# Altium footprint library AltiumDesigner.PcbLib: 151 footprints (part 2 of 10)
Each footprint in its own frame and in the unit in brackets; x right, y up, seen from the top. Pads: shape width x height; smd on the part's side, far side on the other; paste and mask are expansions set on the pad; w line width, h text height; cw(c..) or ccw(c..) is an arc to the next point about the centre after c.
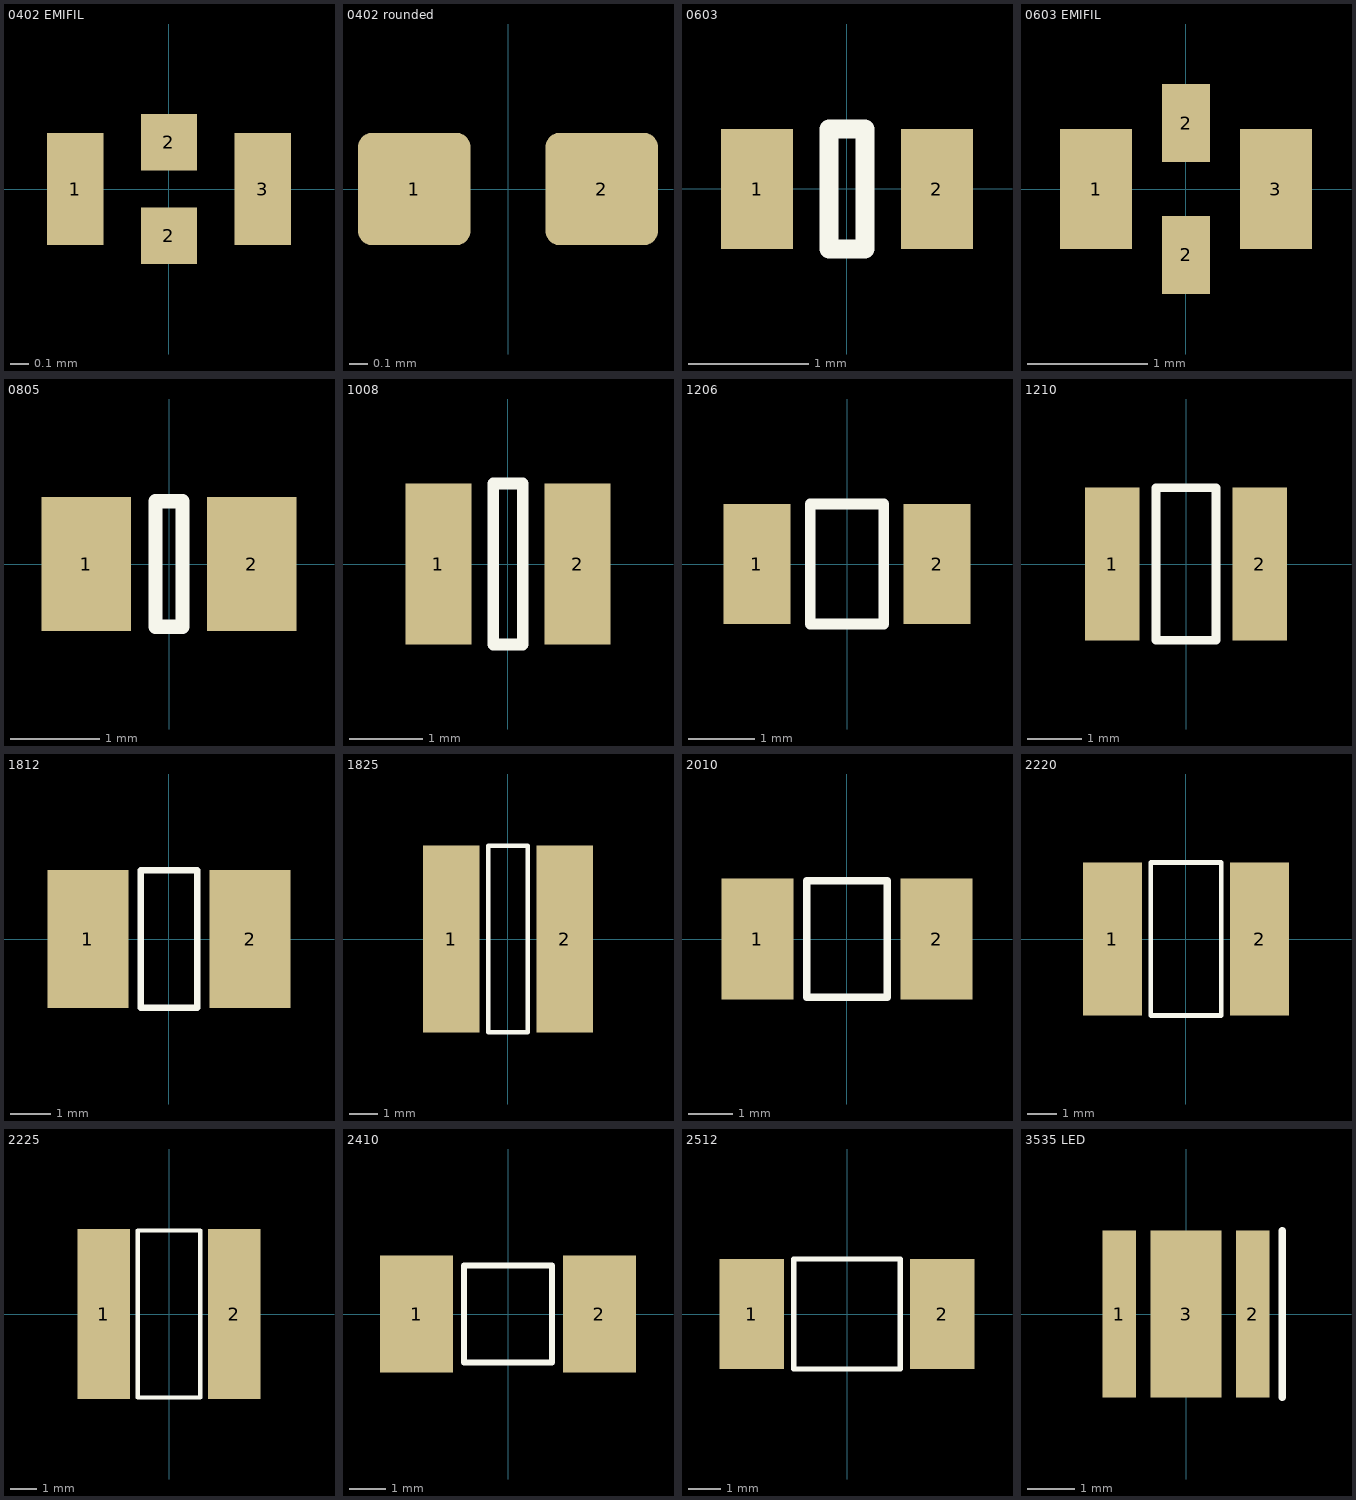
[diagram p1: the footprints below, top view; thin cyan lines are the x and y axes]

## 0402 EMIFIL [mm]
pads (4):
  rect 0.3x0.6 smd: 1(-0.5,0) 3(0.5,0)
  rect 0.3x0.3 smd: 2(0,-0.25) 2(0,0.25)

## 0402 rounded [mm]
pads (2):
  rrect25% 0.6x0.6 smd: 1(-0.5,0) 2(0.5,0)

## 0603 [mm]
pads (2):
  rect 0.6x1 smd: 1(-0.75,0) 2(0.75,0)
Top Overlay:
  lines w0.16: -0.15,-0.5 0.15,-0.5 0.15,0.5 -0.15,0.5 -0.15,-0.5

## 0603 EMIFIL [mm]
pads (4):
  rect 0.6x1 smd: 1(-0.75,0) 3(0.75,0)
  rect 0.4x0.65 smd: 2(0,-0.55) 2(0,0.55)

## 0805 [mm]
pads (2):
  rect 1x1.5 smd: 1(-0.925,0) 2(0.925,0)
Top Overlay:
  lines w0.16: -0.15,-0.7 -0.15,0.7 0.15,0.7 0.15,-0.7 -0.15,-0.7

## 1008 [mm]
pads (2):
  rect 0.9x2.2 smd: 1(-0.95,0) 2(0.95,0)
Top Overlay:
  lines w0.16: -0.2,-1.1 -0.2,1.1 0.2,1.1 0.2,-1.1 -0.2,-1.1

## 1206 [mm]
pads (2):
  rect 1x1.8 smd: 1(-1.35,0) 2(1.35,0)
Top Overlay:
  lines w0.16: -0.55,-0.9 -0.55,0.9 0.55,0.9 0.55,-0.9 -0.55,-0.9

## 1210 [mm]
pads (2):
  rect 1x2.8 smd: 1(-1.35,0) 2(1.35,0)
Top Overlay:
  lines w0.16: -0.55,-1.4 0.55,-1.4 0.55,1.4 -0.55,1.4 -0.55,-1.4

## 1812 [mm]
pads (2):
  rect 2x3.4 smd: 1(-2,0) 2(2,0)
Top Overlay:
  lines w0.16: -0.7,-1.7 0.7,-1.7 0.7,1.7 -0.7,1.7 -0.7,-1.7

## 1825 [mm]
pads (2):
  rect 2x6.6 smd: 1(-2,0) 2(2,0)
Top Overlay:
  lines w0.16: -0.7,-3.3 -0.7,3.3 0.7,3.3 0.7,-3.3 -0.7,-3.3

## 2010 [mm]
pads (2):
  rect 1.6x2.7 smd: 1(-2,0) 2(2,0)
Top Overlay:
  lines w0.16: -0.9,-1.3 0.9,-1.3 0.9,1.3 -0.9,1.3 -0.9,-1.3

## 2220 [mm]
pads (2):
  rect 2x5.2 smd: 1(-2.5,0) 2(2.5,0)
Top Overlay:
  lines w0.16: -1.2,-2.6 1.2,-2.6 1.2,2.6 -1.2,2.6 -1.2,-2.6

## 2225 [mm]
pads (2):
  rect 2x6.5 smd: 1(-2.5,0) 2(2.5,0)
Top Overlay:
  lines w0.16: -1.2,-3.2 1.2,-3.2 1.2,3.2 -1.2,3.2 -1.2,-3.2

## 2410 [mm]
pads (2):
  rect 2x3.2 smd: 1(-2.5,0) 2(2.5,0)
Top Overlay:
  lines w0.16: -1.2,-1.325 -1.2,1.325 1.2,1.325 1.2,-1.325 -1.2,-1.325

## 2512 [mm]
pads (2):
  rect 2x3.4 smd: 1(-2.95,0) 2(2.95,0)
Top Overlay:
  lines w0.16: -1.65,-1.7 -1.65,1.7 1.65,1.7 1.65,-1.7 -1.65,-1.7

## 3535 LED [mm]
pads (3):
  rect 0.7x3.5 smd paste-1: 1(-1.4,0) 2(1.4,0)
  rect 1.5x3.5 smd paste-1: 3(0,0)
Top Overlay:
  lines w0.16: 2.025,-1.75 2.025,1.75
Top Paste:
  region: -0.475,1.6 0.475,1.6 0.475,-1.6 -0.475,-1.6
  region: 1.2,1.6 1.6,1.6 1.6,0.7 1.2,0.7
  region: 1.2,0.45 1.6,0.45 1.6,-0.45 1.2,-0.45
  region: 1.2,-0.7 1.6,-0.7 1.6,-1.6 1.2,-1.6
  region: -1.6,1.6 -1.2,1.6 -1.2,0.7 -1.6,0.7
  region: -1.6,0.45 -1.2,0.45 -1.2,-0.45 -1.6,-0.45
  region: -1.6,-0.7 -1.2,-0.7 -1.2,-1.6 -1.6,-1.6